# Altium footprint library 2021-01-16_17-10-20.PcbLib: 3 footprints
Each footprint in its own frame and in the unit in brackets; x right, y up, seen from the top. Pads: shape width x height; smd on the part's side, far side on the other; paste and mask are expansions set on the pad; w line width, h text height; cw(c..) or ccw(c..) is an arc to the next point about the centre after c.
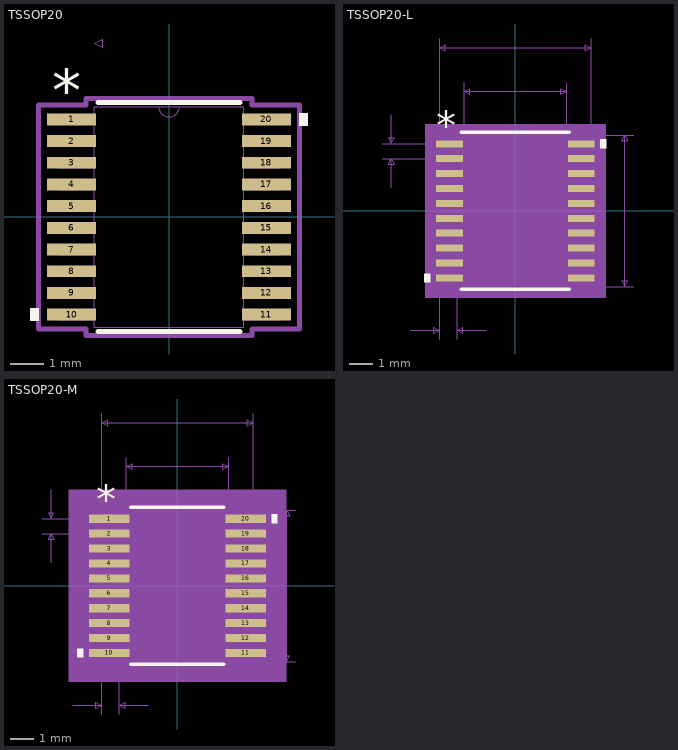
[diagram p0: the footprints below, top view; thin cyan lines are the x and y axes]

## TSSOP20 [mm]
pads (20):
  rect 1.462x0.355 smd paste+0 mask+0: 1(-2.921,2.925) 2(-2.921,2.275) 3(-2.921,1.625) 4(-2.921,0.975) 5(-2.921,0.325) 6(-2.921,-0.325) 7(-2.921,-0.975) 8(-2.921,-1.625) 9(-2.921,-2.275) 10(-2.921,-2.925) 11(2.921,-2.925) 12(2.921,-2.275) 13(2.921,-1.625) 14(2.921,-0.975) 15(2.921,-0.325) 16(2.921,0.325) 17(2.921,0.975) 18(2.921,1.625) 19(2.921,2.275) 20(2.921,2.925)
Top Overlay:
  region: -3.906,-2.734 -4.16,-2.734 -4.16,-3.115 -3.906,-3.115
  region: 3.906,3.115 4.16,3.115 4.16,2.734 3.906,2.734
  lines w0.152: -2.126,-3.429 2.126,-3.429 ; -2.126,3.429 2.126,3.429
  text "*" at -3.492,3.153 h1.27
Mechanical 7:
  lines w0.025: -2.235,5.207 -1.981,5.334 -1.981,5.08 -2.235,5.207
Mechanical 13:
  lines w0: -0.305,3.302 ccw(c0,3.302) 0.305,3.302
  lines w0.025: -3.302,-3.077 -3.302,-2.773 -2.235,-2.773 -2.235,-3.077 -3.302,-3.077 ; -3.302,-2.427 -3.302,-2.123 -2.235,-2.123 -2.235,-2.427 -3.302,-2.427 ; -3.302,-1.777 -3.302,-1.473 -2.235,-1.473 -2.235,-1.777 -3.302,-1.777 ; -3.302,-1.127 -3.302,-0.823 -2.235,-0.823 -2.235,-1.127 -3.302,-1.127 ; -3.302,-0.477 -3.302,-0.173 -2.235,-0.173 -2.235,-0.477 -3.302,-0.477 ; -3.302,0.173 -3.302,0.477 -2.235,0.477 -2.235,0.173 -3.302,0.173 ; -3.302,0.823 -3.302,1.127 -2.235,1.127 -2.235,0.823 -3.302,0.823 ; -3.302,1.473 -3.302,1.777 -2.235,1.777 -2.235,1.473 -3.302,1.473 ; -3.302,2.123 -3.302,2.427 -2.235,2.427 -2.235,2.123 -3.302,2.123 ; -3.302,2.773 -3.302,3.077 -2.235,3.077 -2.235,2.773 -3.302,2.773 ; -2.235,-3.302 2.235,-3.302 2.235,3.302 -2.235,3.302 -2.235,-3.302 ; 2.235,-3.077 2.235,-2.773 3.302,-2.773 3.302,-3.077 2.235,-3.077 ; 2.235,-2.427 2.235,-2.123 3.302,-2.123 3.302,-2.427 2.235,-2.427 ; 2.235,-1.777 2.235,-1.473 3.302,-1.473 3.302,-1.777 2.235,-1.777 ; 2.235,-1.127 2.235,-0.823 3.302,-0.823 3.302,-1.127 2.235,-1.127 ; 2.235,-0.477 2.235,-0.173 3.302,-0.173 3.302,-0.477 2.235,-0.477 ; 2.235,0.173 2.235,0.477 3.302,0.477 3.302,0.173 2.235,0.173 ; 2.235,0.823 2.235,1.127 3.302,1.127 3.302,0.823 2.235,0.823 ; 2.235,1.473 2.235,1.777 3.302,1.777 3.302,1.473 2.235,1.473 ; 2.235,2.123 2.235,2.427 3.302,2.427 3.302,2.123 2.235,2.123 ; 2.235,2.773 2.235,3.077 3.302,3.077 3.302,2.773 2.235,2.773
  text "*" at -2.172,1.956 h1.27
Mechanical 15:
  lines w0.152: -3.906,-3.356 -3.906,3.356 -2.489,3.356 -2.489,3.556 2.489,3.556 2.489,3.356 3.906,3.356 3.906,-3.356 2.489,-3.356 2.489,-3.556 -2.489,-3.556 -2.489,-3.356 -3.906,-3.356
3D body "TSSOP20.step": height 1.2, standoff 0, extent -3.302,-3.302 3.302,3.302
3D body: height 0.25, standoff 0, extent 0,0 0.254,0.254

## TSSOP20-L [mm]
pads (20):
  rect 1.162x0.305 smd paste+0 mask+0: 1(-2.871,2.925) 2(-2.871,2.275) 3(-2.871,1.625) 4(-2.871,0.975) 5(-2.871,0.325) 6(-2.871,-0.325) 7(-2.871,-0.975) 8(-2.871,-1.625) 9(-2.871,-2.275) 10(-2.871,-2.925) 11(2.871,-2.925) 12(2.871,-2.275) 13(2.871,-1.625) 14(2.871,-0.975) 15(2.871,-0.325) 16(2.871,0.325) 17(2.871,0.975) 18(2.871,1.625) 19(2.871,2.275) 20(2.871,2.925)
Top Overlay:
  region: 3.706,3.115 3.96,3.115 3.96,2.734 3.706,2.734
  region: -3.706,-2.734 -3.96,-2.734 -3.96,-3.115 -3.706,-3.115
  lines w0.152: -2.362,-3.429 2.362,-3.429 ; -2.362,3.429 2.362,3.429
  text "*" at -3.443,3.103 h1.27
Mechanical 5:
  region: 3.935,-3.785 -3.935,-3.785 -3.935,3.785 3.935,3.785
Mechanical 7:
  lines w0.025: -5.792,2.275 -2.871,2.275 ; -5.792,2.925 -2.871,2.925 ; -5.411,1.005 -5.411,2.275 ; -5.411,4.195 -5.411,2.925 ; -4.572,-5.207 -3.302,-5.207 ; -3.302,-5.588 -3.302,0 -3.302,7.493 ; -2.54,-5.588 -2.54,0 ; -2.235,0 -2.235,5.588 ; -1.27,-5.207 -2.54,-5.207 ; 0,-3.302 5.156,-3.302 ; 0,3.302 5.156,3.302 ; 2.235,0 2.235,5.588 ; 3.302,0 3.302,7.493 ; -5.411,2.275 -5.284,2.021 -5.538,2.021 -5.411,2.275 ; -5.411,2.925 -5.284,3.179 -5.538,3.179 -5.411,2.925 ; -3.302,-5.207 -3.556,-5.334 -3.556,-5.08 -3.302,-5.207 ; -3.302,7.112 -3.048,6.985 -3.048,7.239 -3.302,7.112 ; -3.302,7.112 3.302,7.112 ; -2.54,-5.207 -2.286,-5.334 -2.286,-5.08 -2.54,-5.207 ; -2.235,5.207 -1.981,5.08 -1.981,5.334 -2.235,5.207 ; -2.235,5.207 2.235,5.207 ; 2.235,5.207 1.981,5.08 1.981,5.334 2.235,5.207 ; 3.302,7.112 3.048,6.985 3.048,7.239 3.302,7.112 ; 4.775,-3.302 4.902,-3.048 4.648,-3.048 4.775,-3.302 ; 4.775,-3.302 4.775,3.302 ; 4.775,3.302 4.902,3.048 4.648,3.048 4.775,3.302
  text "0.03in/0.762mm" at -5.143,-6.35 h0.64
  text "0.026in/0.65mm" at -10.364,2.282 h0.64
  text "0.26in/6.604mm" at 5.283,-0.318 h0.64
  text "0.26in/6.604mm" at -2.222,7.62 h0.64
  text "0.176in/4.47mm" at -2.222,5.715 h0.64
  text "Alt 2 Padstyle: b229_152h76" at -8.572,-16.002 h1.27
  text "Alt 1 Padstyle: b152_229h76" at -8.572,-14.478 h1.27
  text "Pin One Padstyle: r116_30" at -7.938,-9.906 h1.27
  text "Default Padstyle: r116_30" at -7.938,-8.382 h1.27
Mechanical 13:
  lines w0: -0.305,3.302 ccw(c0,3.302) 0.305,3.302
  lines w0.025: -3.302,-3.077 -2.235,-3.077 -2.235,-2.773 -3.302,-2.773 -3.302,-3.077 ; -3.302,-2.427 -2.235,-2.427 -2.235,-2.123 -3.302,-2.123 -3.302,-2.427 ; -3.302,-1.777 -2.235,-1.777 -2.235,-1.473 -3.302,-1.473 -3.302,-1.777 ; -3.302,-1.127 -2.235,-1.127 -2.235,-0.823 -3.302,-0.823 -3.302,-1.127 ; -3.302,-0.477 -2.235,-0.477 -2.235,-0.173 -3.302,-0.173 -3.302,-0.477 ; -3.302,0.173 -2.235,0.173 -2.235,0.477 -3.302,0.477 -3.302,0.173 ; -3.302,0.823 -2.235,0.823 -2.235,1.127 -3.302,1.127 -3.302,0.823 ; -3.302,1.473 -2.235,1.473 -2.235,1.777 -3.302,1.777 -3.302,1.473 ; -3.302,2.123 -2.235,2.123 -2.235,2.427 -3.302,2.427 -3.302,2.123 ; -3.302,2.773 -2.235,2.773 -2.235,3.077 -3.302,3.077 -3.302,2.773 ; -2.235,-3.302 -2.235,3.302 2.235,3.302 2.235,-3.302 -2.235,-3.302 ; 2.235,-3.077 3.302,-3.077 3.302,-2.773 2.235,-2.773 2.235,-3.077 ; 2.235,-2.427 3.302,-2.427 3.302,-2.123 2.235,-2.123 2.235,-2.427 ; 2.235,-1.777 3.302,-1.777 3.302,-1.473 2.235,-1.473 2.235,-1.777 ; 2.235,-1.127 3.302,-1.127 3.302,-0.823 2.235,-0.823 2.235,-1.127 ; 2.235,-0.477 3.302,-0.477 3.302,-0.173 2.235,-0.173 2.235,-0.477 ; 2.235,0.173 3.302,0.173 3.302,0.477 2.235,0.477 2.235,0.173 ; 2.235,0.823 3.302,0.823 3.302,1.127 2.235,1.127 2.235,0.823 ; 2.235,1.473 3.302,1.473 3.302,1.777 2.235,1.777 2.235,1.473 ; 2.235,2.123 3.302,2.123 3.302,2.427 2.235,2.427 2.235,2.123 ; 2.235,2.773 3.302,2.773 3.302,3.077 2.235,3.077 2.235,2.773
  text "*" at -2.172,1.956 h1.27
Mechanical 15:
  region: -2.337,-3.179 -3.554,-3.179 -3.554,3.179 -2.337,3.179 -2.337,3.404 2.337,3.404 2.337,3.179 3.554,3.179 3.554,-3.179 2.337,-3.179 2.337,-3.404 -2.337,-3.404
  lines w0.152: -3.554,-3.179 -2.337,-3.179 -2.337,-3.404 2.337,-3.404 2.337,-3.179 3.554,-3.179 3.554,3.179 2.337,3.179 2.337,3.404 -2.337,3.404 -2.337,3.179 -3.554,3.179 -3.554,-3.179
3D body: height 0.25, standoff 0, extent 0,0 0.254,0.254

## TSSOP20-M [mm]
pads (20):
  rect 1.762x0.355 smd paste+0 mask+0: 1(-2.971,2.925) 2(-2.971,2.275) 3(-2.971,1.625) 4(-2.971,0.975) 5(-2.971,0.325) 6(-2.971,-0.325) 7(-2.971,-0.975) 8(-2.971,-1.625) 9(-2.971,-2.275) 10(-2.971,-2.925) 11(2.971,-2.925) 12(2.971,-2.275) 13(2.971,-1.625) 14(2.971,-0.975) 15(2.971,-0.325) 16(2.971,0.325) 17(2.971,0.975) 18(2.971,1.625) 19(2.971,2.275) 20(2.971,2.925)
Top Overlay:
  region: -4.106,-2.734 -4.36,-2.734 -4.36,-3.115 -4.106,-3.115
  region: 4.106,3.115 4.36,3.115 4.36,2.734 4.106,2.734
  lines w0.152: -2.026,-3.429 2.026,-3.429 ; -2.026,3.429 2.026,3.429
  text "*" at -3.542,3.153 h1.27
Mechanical 5:
  region: 4.741,-4.191 -4.741,-4.191 -4.741,4.191 4.741,4.191
Mechanical 7:
  lines w0.025: -5.892,2.275 -2.971,2.275 ; -5.892,2.925 -2.971,2.925 ; -5.511,1.005 -5.511,2.275 ; -5.511,4.195 -5.511,2.925 ; -4.572,-5.207 -3.302,-5.207 ; -3.302,-5.588 -3.302,0 -3.302,7.493 ; -2.54,-5.588 -2.54,0 ; -2.235,0 -2.235,5.588 ; -1.27,-5.207 -2.54,-5.207 ; 0,-3.302 5.156,-3.302 ; 0,3.302 5.156,3.302 ; 2.235,0 2.235,5.588 ; 3.302,0 3.302,7.493 ; -5.511,2.275 -5.638,2.021 -5.384,2.021 -5.511,2.275 ; -5.511,2.925 -5.638,3.179 -5.384,3.179 -5.511,2.925 ; -3.302,-5.207 -3.556,-5.08 -3.556,-5.334 -3.302,-5.207 ; -3.302,7.112 3.302,7.112 ; -3.302,7.112 -3.048,7.239 -3.048,6.985 -3.302,7.112 ; -2.54,-5.207 -2.286,-5.08 -2.286,-5.334 -2.54,-5.207 ; -2.235,5.207 2.235,5.207 ; -2.235,5.207 -1.981,5.334 -1.981,5.08 -2.235,5.207 ; 2.235,5.207 1.981,5.334 1.981,5.08 2.235,5.207 ; 3.302,7.112 3.048,7.239 3.048,6.985 3.302,7.112 ; 4.775,-3.302 4.775,3.302 ; 4.775,-3.302 4.648,-3.048 4.902,-3.048 4.775,-3.302 ; 4.775,3.302 4.648,3.048 4.902,3.048 4.775,3.302
  text "Default Padstyle: r176_35" at -7.938,-8.382 h1.27
  text "Pin One Padstyle: r176_35" at -7.938,-9.906 h1.27
  text "Alt 1 Padstyle: b152_229h76" at -8.572,-14.478 h1.27
  text "Alt 2 Padstyle: b229_152h76" at -8.572,-16.002 h1.27
  text "0.176in/4.47mm" at -2.222,5.715 h0.64
  text "0.26in/6.604mm" at -2.222,7.62 h0.64
  text "0.26in/6.604mm" at 5.283,-0.318 h0.64
  text "0.026in/0.65mm" at -10.464,2.282 h0.64
  text "0.03in/0.762mm" at -5.143,-6.35 h0.64
Mechanical 13:
  lines w0: -0.305,3.302 ccw(c0,3.302) 0.305,3.302
  lines w0.025: -3.302,-3.077 -3.302,-2.773 -2.235,-2.773 -2.235,-3.077 -3.302,-3.077 ; -3.302,-2.427 -3.302,-2.123 -2.235,-2.123 -2.235,-2.427 -3.302,-2.427 ; -3.302,-1.777 -3.302,-1.473 -2.235,-1.473 -2.235,-1.777 -3.302,-1.777 ; -3.302,-1.127 -3.302,-0.823 -2.235,-0.823 -2.235,-1.127 -3.302,-1.127 ; -3.302,-0.477 -3.302,-0.173 -2.235,-0.173 -2.235,-0.477 -3.302,-0.477 ; -3.302,0.173 -3.302,0.477 -2.235,0.477 -2.235,0.173 -3.302,0.173 ; -3.302,0.823 -3.302,1.127 -2.235,1.127 -2.235,0.823 -3.302,0.823 ; -3.302,1.473 -3.302,1.777 -2.235,1.777 -2.235,1.473 -3.302,1.473 ; -3.302,2.123 -3.302,2.427 -2.235,2.427 -2.235,2.123 -3.302,2.123 ; -3.302,2.773 -3.302,3.077 -2.235,3.077 -2.235,2.773 -3.302,2.773 ; -2.235,-3.302 2.235,-3.302 2.235,3.302 -2.235,3.302 -2.235,-3.302 ; 2.235,-3.077 2.235,-2.773 3.302,-2.773 3.302,-3.077 2.235,-3.077 ; 2.235,-2.427 2.235,-2.123 3.302,-2.123 3.302,-2.427 2.235,-2.427 ; 2.235,-1.777 2.235,-1.473 3.302,-1.473 3.302,-1.777 2.235,-1.777 ; 2.235,-1.127 2.235,-0.823 3.302,-0.823 3.302,-1.127 2.235,-1.127 ; 2.235,-0.477 2.235,-0.173 3.302,-0.173 3.302,-0.477 2.235,-0.477 ; 2.235,0.173 2.235,0.477 3.302,0.477 3.302,0.173 2.235,0.173 ; 2.235,0.823 2.235,1.127 3.302,1.127 3.302,0.823 2.235,0.823 ; 2.235,1.473 2.235,1.777 3.302,1.777 3.302,1.473 2.235,1.473 ; 2.235,2.123 2.235,2.427 3.302,2.427 3.302,2.123 2.235,2.123 ; 2.235,2.773 2.235,3.077 3.302,3.077 3.302,2.773 2.235,2.773
  text "*" at -2.172,1.956 h1.27
Mechanical 15:
  region: -2.743,-3.61 -4.36,-3.61 -4.36,3.61 -2.743,3.61 -2.743,3.81 2.743,3.81 2.743,3.61 4.36,3.61 4.36,-3.61 2.743,-3.61 2.743,-3.81 -2.743,-3.81
  lines w0.152: -4.36,-3.61 -4.36,3.61 -2.743,3.61 -2.743,3.81 2.743,3.81 2.743,3.61 4.36,3.61 4.36,-3.61 2.743,-3.61 2.743,-3.81 -2.743,-3.81 -2.743,-3.61 -4.36,-3.61
3D body: height 0.25, standoff 0, extent 0,0 0.254,0.254